# Altium footprint library 直插.PcbLib: 159 footprints (part 3 of 10)
Each footprint in its own frame and in the unit in brackets; x right, y up, seen from the top. Pads: shape width x height; smd on the part's side, far side on the other; paste and mask are expansions set on the pad; w line width, h text height; cw(c..) or ccw(c..) is an arc to the next point about the centre after c.
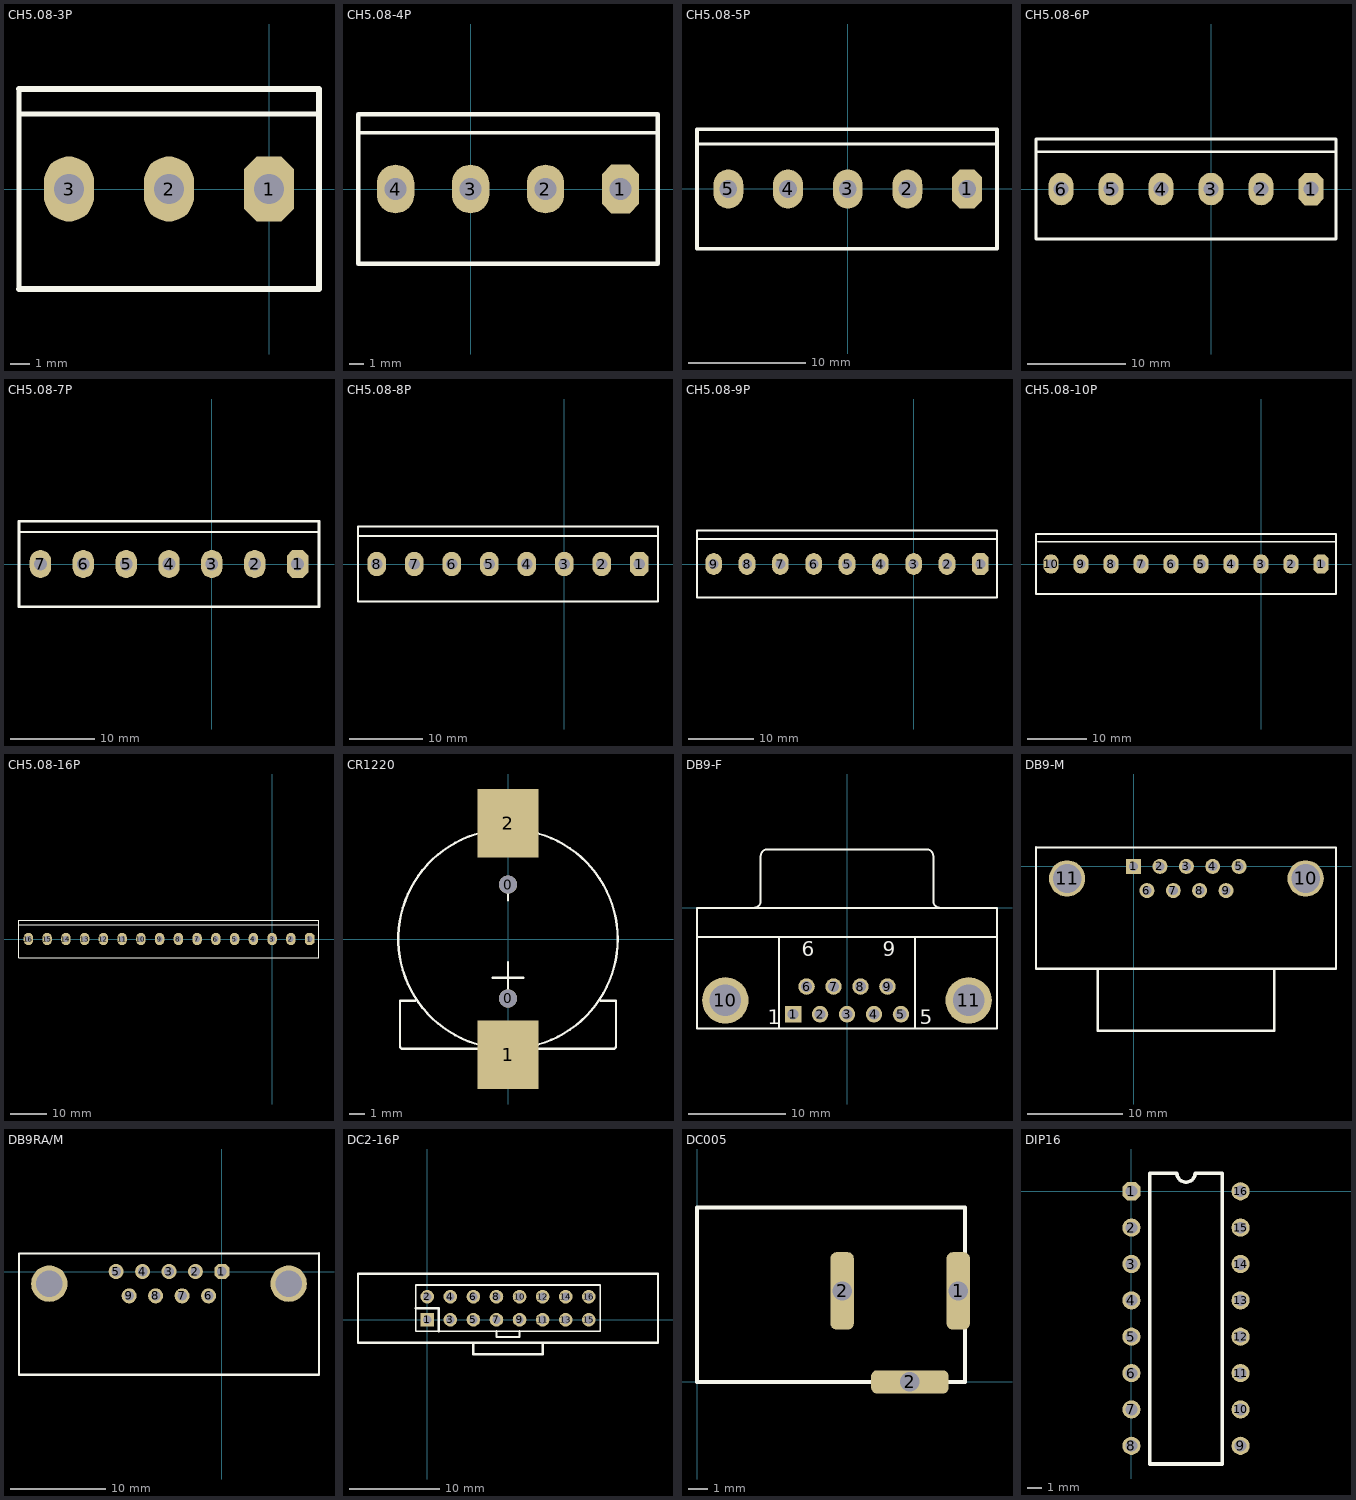
[diagram p2: the footprints below, top view; thin cyan lines are the x and y axes]

## CH5.08-3P [mil] "白色接插件"
pads (3):
  oct 100x130 hole 59.06: 1(0,0)
  oval 100x130 hole 59.06: 2(-200,0) 3(-400,0)
Top Overlay:
  lines w10: -500,-200 -500,200 ; -500,150 100,150
  lines w12: -500,-200 100,-200 100,200 -500,200

## CH5.08-4P [mil] "白色接插件"
pads (4):
  oct 100x130 hole 59.06: 1(400,0)
  oval 100x130 hole 59.06: 2(200,0) 3(0,0) 4(-200,0)
Top Overlay:
  lines w10: -300,150 500,150
  lines w12: -300,-200 -300,200 500,200 500,-200 -300,-200

## CH5.08-5P [mil] "白色接插件"
pads (5):
  oct 100x130 hole 59.06: 1(400,0)
  oval 100x130 hole 59.06: 2(200,0) 3(0,0) 4(-200,0) 5(-400,0)
Top Overlay:
  lines w10: -505,150 500,150
  lines w12: -505,-200 -505,200 500,200 500,-200 -505,-200

## CH5.08-6P [mil] "白色接插件"
pads (6):
  oct 100x130 hole 59.06: 1(400,0)
  oval 100x130 hole 59.06: 2(200,0) 3(0,0) 4(-200,0) 5(-400,0) 6(-600,0)
Top Overlay:
  lines w10: -700,150 500,150
  lines w12: -700,-200 -700,200 500,200 500,-200 -700,-200

## CH5.08-7P [mil] "白色接插件"
pads (7):
  oct 100x130 hole 59.06: 1(400,0)
  oval 100x130 hole 59.06: 2(200,0) 3(0,0) 4(-200,0) 5(-400,0) 6(-600,0) 7(-800,0)
Top Overlay:
  lines w10: -900,150 500,150
  lines w12: -900,-200 500,-200 500,200 -900,200 -900,-200

## CH5.08-8P [mil] "白色接插件"
pads (8):
  oct 100x130 hole 59.06: 1(400,0)
  oval 100x130 hole 59.06: 2(200,0) 3(0,0) 4(-200,0) 5(-400,0) 6(-600,0) 7(-800,0) 8(-1000,0)
Top Overlay:
  lines w10: -1100,150 500,150
  lines w12: -1100,-200 -1100,200 500,200 500,-200 -1100,-200

## CH5.08-9P [mil] "白色接插件"
pads (9):
  oct 100x130 hole 59.06: 1(400,0)
  oval 100x130 hole 59.06: 2(200,0) 3(0,0) 4(-200,0) 5(-400,0) 6(-600,0) 7(-800,0) 8(-1000,0) 9(-1200,0)
Top Overlay:
  lines w10: -1300,150 500,150
  lines w12: -1300,-200 500,-200 500,200 -1300,200 -1300,-200

## CH5.08-10P [mil] "白色接插件"
pads (10):
  oct 100x130 hole 59.06: 1(400,0)
  oval 100x130 hole 59.06: 2(200,0) 3(0,0) 4(-200,0) 5(-400,0) 6(-600,0) 7(-800,0) 8(-1000,0) 9(-1200,0) 10(-1400,0)
Top Overlay:
  lines w10: -1490,150 500,150
  lines w12: -1500,-200 -1500,200 500,200 500,-200 -1500,-200

## CH5.08-16P [mil] "白色接插件"
pads (16):
  oct 100x130 hole 59.06: 1(400,0)
  oval 100x130 hole 59.06: 2(200,0) 3(0,0) 4(-200,0) 5(-400,0) 6(-600,0) 7(-800,0) 8(-1000,0) 9(-1200,0) 10(-1400,0) 11(-1600,0) 12(-1800,0) 13(-2000,0) 14(-2200,0) 15(-2400,0) 16(-2600,0)
Top Overlay:
  lines w10: -2700,150 500,150
  lines w12: -2700,-200 -2700,200 500,200 500,-200 -2700,-200

## CR1220 [mm]
pads (4):
  round 1.2 hole 1.2: 0(0,-3.912) 0(0,3.581)
  rect 4x4.5 smd: 1(0,-7.62) 2(0,7.62)
Top Overlay:
  circle w0.152: c0,0 r7.22
  lines w0.152: -6.096,-4.064 -7.112,-4.064 -7.112,-7.112 -7.004,-7.22 0,-7.22 7.004,-7.22 7.112,-7.112 7.112,-4.064 6.096,-4.064 ; -1.016,-2.54 1.016,-2.54 ; 0,-3.556 0,-1.524 ; 0,2.54 0,4.064

## DB9-F [mm] "DB9母座"
height 12.75
pads (11):
  rect 1.69x1.69 hole 1.09: 1(-5.54,-10.92)
  round 1.69 hole 1.09: 2(-2.77,-10.92) 3(0,-10.92) 4(2.77,-10.92) 5(5.54,-10.92) 6(-4.155,-8.08) 7(-1.385,-8.08) 8(1.385,-8.08) 9(4.155,-8.08)
  round 4.76 hole 3.26: 10(-12.495,-9.5) 11(12.495,-9.5)
Top Overlay:
  lines w0.2: -15.4,-3 15.4,-3 ; -9.56,0.005 ccw(c-9.56,0.7) -8.865,0.7 -8.865,5.3 ; -8.86,5.305 cw(c-8.165,5.305) -8.165,6 8.165,6 cw(c8.165,5.305) 8.86,5.305 ; -7,-12.4 -7,-3 ; 7,-12.4 7,-3 ; 8.865,5.3 8.865,0.7 ccw(c9.56,0.7) 9.56,0.005 ; -15.4,-12.4 15.4,-12.4 15.4,0 -15.4,0 -15.4,-12.4
  text "6" at -4.655,-4.975 h1.5
  text "9" at 3.655,-4.975 h1.5
  text "5" at 7.493,-11.938 h1.5
  text "1" at -8.128,-11.938 h1.5

## DB9-M [mil] "DB9公座"
height 393.7
pads (11):
  rect 62x62 hole 38: 1(0,0)
  round 62 hole 38: 2(109,0) 3(218,0) 4(327,0) 5(436,0) 6(55,-100) 7(164,-100) 8(273,-100) 9(382,-100)
  round 150 hole 118.11: 10(711,-50) 11(-275,-50)
Top Overlay:
  lines w8: -403.54,78.74 836.61,78.74 836.61,-423.23
  lines w10: -403.54,78.74 -403.54,-423.23 836.61,-423.23 ; -147.64,-425 -147.64,-679.13 580.71,-679.13 580.71,-425
3D body: height 393.7, standoff 0, extent -405,-425 835,75
3D body: height 314.96, standoff 0, extent -145,-680 580,-425

## DB9RA/M [mil] "母座"
pads (11):
  oct 62x62 hole 39.37: 1(0,0)
  round 62 hole 39.37: 2(-109,0) 3(-218,0) 4(-327,0) 5(-436,0) 6(-55,-100) 7(-164,-100) 8(-273,-100) 9(-382,-100)
  round 150 hole 110: ""(-711,-50) ""(275,-50)
Top Overlay:
  lines w8: -836,-425 -836,75 400,75
  lines w10: -836,-425 400,-425 400,75

## DC2-16P [mm] "牛角座Connector; Header; 8x2 Position"
pads (16):
  rect 1.5x1.5 hole 0.9: 1(0,0)
  round 1.5 hole 0.9: 2(0,2.54) 3(2.54,0) 4(2.54,2.54) 5(5.08,0) 6(5.08,2.54) 7(7.62,0) 8(7.62,2.54) 9(10.16,0) 10(10.16,2.54) 11(12.7,0) 12(12.7,2.54) 13(15.24,0) 14(15.24,2.54) 15(17.78,0) 16(17.78,2.54)
Top Overlay:
  lines w0.2: -1.27,-1.27 0.635,-1.27 19.05,-1.27 19.05,3.81 0.635,3.81 -1.27,3.81 -1.27,-1.27
  lines w0.254: -1.27,1.27 1.27,1.27 1.27,-1.27 ; 5.08,-2.54 5.08,-3.81 12.7,-3.81 12.7,-2.54 ; 7.62,-1.27 7.62,-1.905 10.16,-1.905 10.16,-1.27 ; -7.62,-2.54 25.4,-2.54 25.4,5.08 -7.62,5.08 -7.62,-2.54

## DC005 [mm]
pads (3):
  rrect50% 1.2x4 hole 1 square: 1(13.5,4.7) 2(7.5,4.7)
  rrect50% 4x1.2 hole 1 square: 2(11,0)
Top Overlay:
  lines w0.2: 0,0 13.843,0 13.843,9.017 0,9.017 0,0

## DIP16 [mil]
pads (16):
  oct 50x50 hole 32: 1(0,0)
  round 50 hole 32: 2(0,-100) 3(0,-200) 4(0,-300) 5(0,-400) 6(0,-500) 7(0,-600) 8(0,-700) 9(300,-700) 10(300,-600) 11(300,-500) 12(300,-400) 13(300,-300) 14(300,-200) 15(300,-100) 16(300,0)
Top Overlay:
  lines w10: 50,-750 250,-750 250,50 175,50 cw(c150,50) 125,50 50,50 50,-750